# Altium schematic symbol library VNH3SP30-E.SchLib: 1 symbol
Pins are listed as number, name and electrical type; pins without a type are passive.

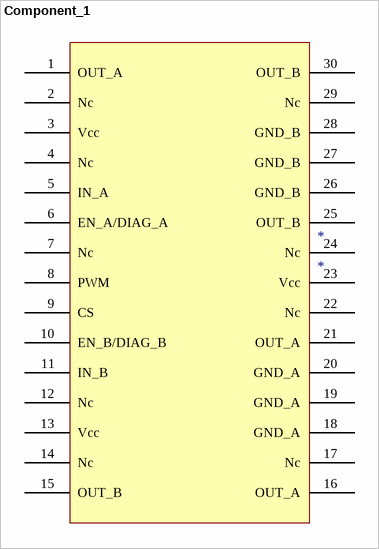
[diagram p0: symbol Component_1]

## Component_1
designator *
footprint MultiPowerSO-30 (MultiPowerSO-30, 30-Leads, Body 17.2x15.0mm (max), Pitch 1.00mm, IPC Medium Density)
pins: 1 OUT_A, 2 Nc, 3 Vcc, 4 Nc, 5 IN_A, 6 EN_A/DIAG_A, 7 Nc, 8 PWM, 9 CS, 10 EN_B/DIAG_B, 11 IN_B, 12 Nc, 13 Vcc, 14 Nc, 15 OUT_B, 16 OUT_A, 17 Nc, 18 GND_A, 19 GND_A, 20 GND_A, 21 OUT_A, 22 Nc, 23 Vcc, 24 Nc, 25 OUT_B, 26 GND_B, 27 GND_B, 28 GND_B, 29 Nc, 30 OUT_B